# EAGLE library part JKFF (library ngspice)
The digital jk-type flip flop is a one-bit, edge-triggered storage element which will store data whenever the clk input line transitions from low to high (ZERO to ONE). In addition, asynchronous set and reset signals exist, and each of the three methods of changing the stored output of the d_jkff have separate load values and delays associated with them. Additionally, you may specify separate rise and fall delay values that are added to those specified for the input lines; these allow for more faithful reproduction of the output characteristics of different IC fabrication technologies. Note that any UNKNOWN inputs other than j or k cause the output to go UNKNOWN automatically.
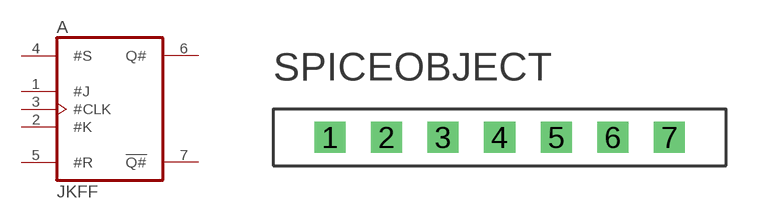
[diagram p1: symbol with the pads of SPICE7; footprint SPICE7]

Designator prefix A

## JKFF (SPICE_MODEL: .model >VALUE d_jkff (clk_delay set_delay reset_delay ic jk_load clk_load set_load reset_load rise_delay fall_delay); SP_CLK_DELAY: 1ns; SP_CLK_LOAD: 1pF; SP_FALL_DELAY: 1ns; SP_IC: 0; SP_JK_LOAD: 1pF; SP_RESET_DELAY: 1ns; SP_RESET_LOAD: 1pF; SP_RISE_DELAY: 1ns; SP_SET_DELAY: 1ns; SP_SET_LOAD: 1pF)  [SPICE7]
1  #J  in
2  #K  in
3  #CLK  in
4  #S  in
5  #R  in
6  Q#  out
7  !Q#  out

## Footprint SPICE7 (pad centres in mm)
drill 0.813 pad 1.397 square: 1 -7.62,0; 2 -5.08,0; 3 -2.54,0; 4 0,0; 5 2.54,0; 6 5.08,0; 7 7.62,0